# Altium footprint library IC_SMD_BGA.PCBLIB: 109 footprints (part 8 of 14)
Each footprint in its own frame and in the unit in brackets; x right, y up, seen from the top. Pads: shape width x height; smd on the part's side, far side on the other; paste and mask are expansions set on the pad; w line width, h text height; cw(c..) or ccw(c..) is an arc to the next point about the centre after c.
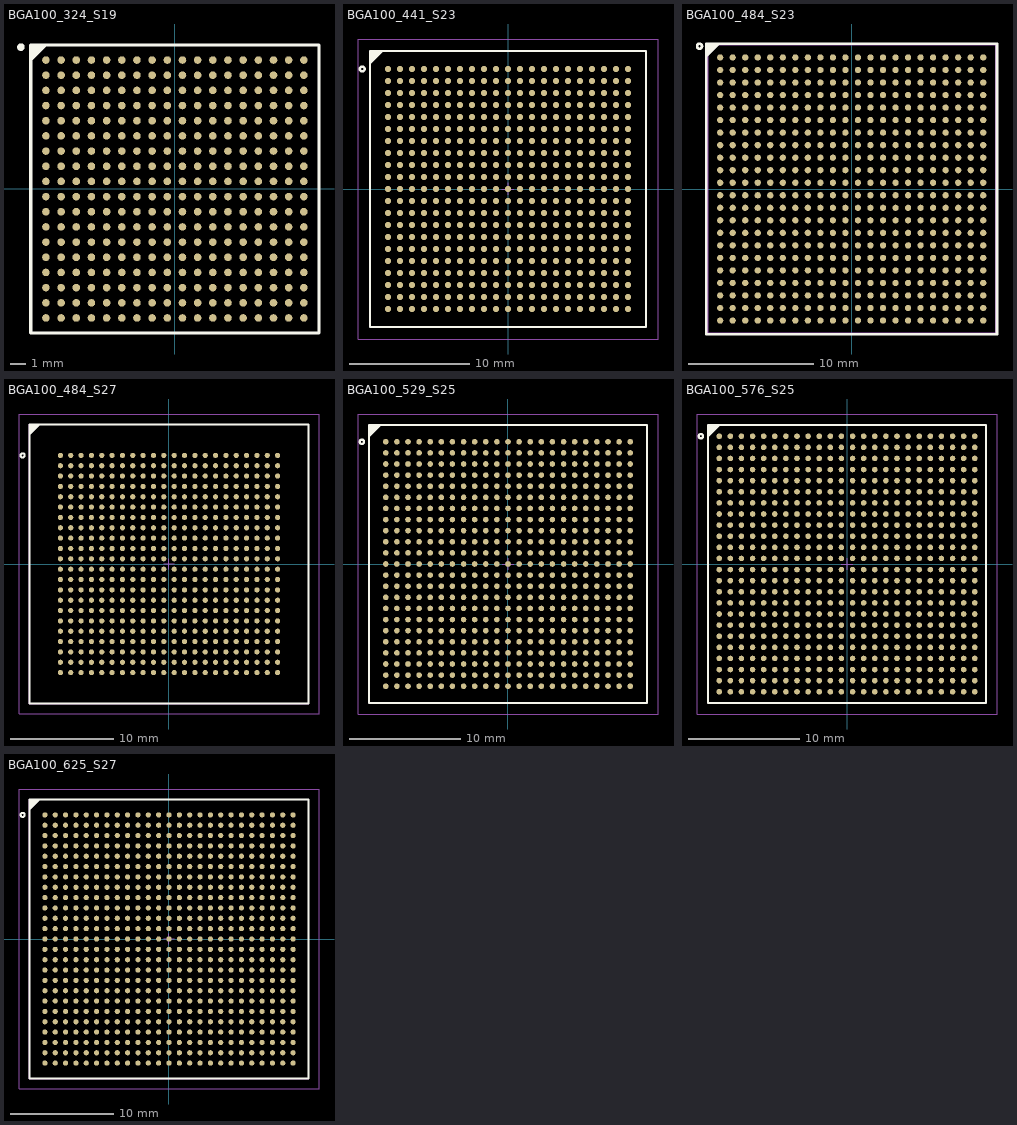
[diagram p7: the footprints below, top view; thin cyan lines are the x and y axes]

## BGA100_324_S19 [mm]
height 1
pads (324):
  round 0.5 smd mask+0.1: A1(-8.5,8.5) A2(-7.5,8.5) A3(-6.5,8.5) A4(-5.5,8.5) A5(-4.5,8.5) A6(-3.5,8.5) A7(-2.5,8.5) A8(-1.5,8.5) A9(-0.5,8.5) A10(0.5,8.5) A11(1.5,8.5) A12(2.5,8.5) A13(3.5,8.5) A14(4.5,8.5) A15(5.5,8.5) A16(6.5,8.5) A17(7.5,8.5) A18(8.5,8.5) B1(-8.5,7.5) B2(-7.5,7.5) B3(-6.5,7.5) B4(-5.5,7.5) B5(-4.5,7.5) B6(-3.5,7.5) B7(-2.5,7.5) B8(-1.5,7.5) B9(-0.5,7.5) B10(0.5,7.5) B11(1.5,7.5) B12(2.5,7.5) B13(3.5,7.5) B14(4.5,7.5) B15(5.5,7.5) B16(6.5,7.5) B17(7.5,7.5) B18(8.5,7.5) C1(-8.5,6.5) C2(-7.5,6.5) C3(-6.5,6.5) C4(-5.5,6.5) C5(-4.5,6.5) C6(-3.5,6.5) C7(-2.5,6.5) C8(-1.5,6.5) C9(-0.5,6.5) C10(0.5,6.5) C11(1.5,6.5) C12(2.5,6.5) C13(3.5,6.5) C14(4.5,6.5) C15(5.5,6.5) C16(6.5,6.5) C17(7.5,6.5) C18(8.5,6.5) D1(-8.5,5.5) D2(-7.5,5.5) D3(-6.5,5.5) D4(-5.5,5.5) D5(-4.5,5.5) D6(-3.5,5.5) D7(-2.5,5.5) D8(-1.5,5.5) D9(-0.5,5.5) D10(0.5,5.5) D11(1.5,5.5) D12(2.5,5.5) D13(3.5,5.5) D14(4.5,5.5) D15(5.5,5.5) D16(6.5,5.5) D17(7.5,5.5) D18(8.5,5.5) E1(-8.5,4.5) E2(-7.5,4.5) E3(-6.5,4.5) E4(-5.5,4.5) E5(-4.5,4.5) E6(-3.5,4.5) E7(-2.5,4.5) E8(-1.5,4.5) E9(-0.5,4.5) E10(0.5,4.5) E11(1.5,4.5) E12(2.5,4.5) E13(3.5,4.5) E14(4.5,4.5) E15(5.5,4.5) E16(6.5,4.5) E17(7.5,4.5) E18(8.5,4.5) F1(-8.5,3.5) F2(-7.5,3.5) F3(-6.5,3.5) F4(-5.5,3.5) F5(-4.5,3.5) F6(-3.5,3.5) F7(-2.5,3.5) F8(-1.5,3.5) F9(-0.5,3.5) F10(0.5,3.5) F11(1.5,3.5) F12(2.5,3.5) F13(3.5,3.5) F14(4.5,3.5) F15(5.5,3.5) F16(6.5,3.5) F17(7.5,3.5) F18(8.5,3.5) G1(-8.5,2.5) G2(-7.5,2.5) G3(-6.5,2.5) G4(-5.5,2.5) G5(-4.5,2.5) G6(-3.5,2.5) G7(-2.5,2.5) G8(-1.5,2.5) G9(-0.5,2.5) G10(0.5,2.5) G11(1.5,2.5) G12(2.5,2.5) G13(3.5,2.5) G14(4.5,2.5) G15(5.5,2.5) G16(6.5,2.5) G17(7.5,2.5) G18(8.5,2.5) H1(-8.5,1.5) H2(-7.5,1.5) H3(-6.5,1.5) H4(-5.5,1.5) H5(-4.5,1.5) H6(-3.5,1.5) H7(-2.5,1.5) H8(-1.5,1.5) H9(-0.5,1.5) H10(0.5,1.5) H11(1.5,1.5) H12(2.5,1.5) H13(3.5,1.5) H14(4.5,1.5) H15(5.5,1.5) H16(6.5,1.5) H17(7.5,1.5) H18(8.5,1.5) J1(-8.5,0.5) J2(-7.5,0.5) J3(-6.5,0.5) J4(-5.5,0.5) J5(-4.5,0.5) J6(-3.5,0.5) J7(-2.5,0.5) J8(-1.5,0.5) J9(-0.5,0.5) J10(0.5,0.5) J11(1.5,0.5) J12(2.5,0.5) J13(3.5,0.5) J14(4.5,0.5) J15(5.5,0.5) J16(6.5,0.5) J17(7.5,0.5) J18(8.5,0.5) K1(-8.5,-0.5) K2(-7.5,-0.5) K3(-6.5,-0.5) K4(-5.5,-0.5) K5(-4.5,-0.5) K6(-3.5,-0.5) K7(-2.5,-0.5) K8(-1.5,-0.5) K9(-0.5,-0.5) K10(0.5,-0.5) K11(1.5,-0.5) K12(2.5,-0.5) K13(3.5,-0.5) K14(4.5,-0.5) K15(5.5,-0.5) K16(6.5,-0.5) K17(7.5,-0.5) K18(8.5,-0.5) L1(-8.5,-1.5) L2(-7.5,-1.5) L3(-6.5,-1.5) L4(-5.5,-1.5) L5(-4.5,-1.5) L6(-3.5,-1.5) L7(-2.5,-1.5) L8(-1.5,-1.5) L9(-0.5,-1.5) L10(0.5,-1.5) L11(1.5,-1.5) L12(2.5,-1.5) L13(3.5,-1.5) L14(4.5,-1.5) L15(5.5,-1.5) L16(6.5,-1.5) L17(7.5,-1.5) L18(8.5,-1.5) M1(-8.5,-2.5) M2(-7.5,-2.5) M3(-6.5,-2.5) M4(-5.5,-2.5) M5(-4.5,-2.5) M6(-3.5,-2.5) M7(-2.5,-2.5) M8(-1.5,-2.5) M9(-0.5,-2.5) M10(0.5,-2.5) M11(1.5,-2.5) M12(2.5,-2.5) M13(3.5,-2.5) M14(4.5,-2.5) M15(5.5,-2.5) M16(6.5,-2.5) M17(7.5,-2.5) M18(8.5,-2.5) N1(-8.5,-3.5) N2(-7.5,-3.5) N3(-6.5,-3.5) N4(-5.5,-3.5) N5(-4.5,-3.5) N6(-3.5,-3.5) N7(-2.5,-3.5) N8(-1.5,-3.5) N9(-0.5,-3.5) N10(0.5,-3.5) N11(1.5,-3.5) N12(2.5,-3.5) N13(3.5,-3.5) N14(4.5,-3.5) N15(5.5,-3.5) N16(6.5,-3.5) N17(7.5,-3.5) N18(8.5,-3.5) P1(-8.5,-4.5) P2(-7.5,-4.5) P3(-6.5,-4.5) P4(-5.5,-4.5) P5(-4.5,-4.5) P6(-3.5,-4.5) P7(-2.5,-4.5) P8(-1.5,-4.5) P9(-0.5,-4.5) P10(0.5,-4.5) P11(1.5,-4.5) P12(2.5,-4.5) P13(3.5,-4.5) P14(4.5,-4.5) P15(5.5,-4.5) P16(6.5,-4.5) P17(7.5,-4.5) P18(8.5,-4.5) R1(-8.5,-5.5) R2(-7.5,-5.5) R3(-6.5,-5.5) R4(-5.5,-5.5) R5(-4.5,-5.5) R6(-3.5,-5.5) R7(-2.5,-5.5) R8(-1.5,-5.5) R9(-0.5,-5.5) R10(0.5,-5.5) R11(1.5,-5.5) R12(2.5,-5.5) R13(3.5,-5.5) R14(4.5,-5.5) R15(5.5,-5.5) R16(6.5,-5.5) R17(7.5,-5.5) R18(8.5,-5.5) T1(-8.5,-6.5) T2(-7.5,-6.5) T3(-6.5,-6.5) T4(-5.5,-6.5) T5(-4.5,-6.5) T6(-3.5,-6.5) T7(-2.5,-6.5) T8(-1.5,-6.5) T9(-0.5,-6.5) T10(0.5,-6.5) T11(1.5,-6.5) T12(2.5,-6.5) T13(3.5,-6.5) T14(4.5,-6.5) T15(5.5,-6.5) T16(6.5,-6.5) T17(7.5,-6.5) T18(8.5,-6.5) U1(-8.5,-7.5) U2(-7.5,-7.5) U3(-6.5,-7.5) U4(-5.5,-7.5) U5(-4.5,-7.5) U6(-3.5,-7.5) U7(-2.5,-7.5) U8(-1.5,-7.5) U9(-0.5,-7.5) U10(0.5,-7.5) U11(1.5,-7.5) U12(2.5,-7.5) U13(3.5,-7.5) U14(4.5,-7.5) U15(5.5,-7.5) U16(6.5,-7.5) U17(7.5,-7.5) U18(8.5,-7.5) V1(-8.5,-8.5) V2(-7.5,-8.5) V3(-6.5,-8.5) V4(-5.5,-8.5) V5(-4.5,-8.5) V6(-3.5,-8.5) V7(-2.5,-8.5) V8(-1.5,-8.5) V9(-0.5,-8.5) V10(0.5,-8.5) V11(1.5,-8.5) V12(2.5,-8.5) V13(3.5,-8.5) V14(4.5,-8.5) V15(5.5,-8.5) V16(6.5,-8.5) V17(7.5,-8.5) V18(8.5,-8.5)
TopOverlay:
  circle w0.25: c-10.15,9.35 r0.125
  region: -8.5,9.5 -9.5,8.5 -9.5,9.5
  lines w0.2: -9.5,8.5 -8.5,9.5 ; -9.5,-9.5 -9.5,9.5 9.5,9.5 9.5,-9.5 -9.5,-9.5
Mechanical13:
  lines w0.1: -9.5,-9.5 -9.5,9.5 9.5,9.5 9.5,-9.5 -9.5,-9.5
3D body: height 1, standoff 0.15, extent -9.5,-9.5 9.5,9.5

## BGA100_441_S23 [mm] "BGA, 441-Leads, Body 23x23mm, Pitch 1mm"
height 3.5
pads (441):
  round 0.5 smd: A1(-10,10) A2(-9,10) A3(-8,10) A4(-7,10) A5(-6,10) A6(-5,10) A7(-4,10) A8(-3,10) A9(-2,10) A10(-1,10) A11(0,10) A12(1,10) A13(2,10) A14(3,10) A15(4,10) A16(5,10) A17(6,10) A18(7,10) A19(8,10) A20(9,10) A21(10,10) AA1(-10,-10) AA2(-9,-10) AA3(-8,-10) AA4(-7,-10) AA5(-6,-10) AA6(-5,-10) AA7(-4,-10) AA8(-3,-10) AA9(-2,-10) AA10(-1,-10) AA11(0,-10) AA12(1,-10) AA13(2,-10) AA14(3,-10) AA15(4,-10) AA16(5,-10) AA17(6,-10) AA18(7,-10) AA19(8,-10) AA20(9,-10) AA21(10,-10) B1(-10,9) B2(-9,9) B3(-8,9) B4(-7,9) B5(-6,9) B6(-5,9) B7(-4,9) B8(-3,9) B9(-2,9) B10(-1,9) B11(0,9) B12(1,9) B13(2,9) B14(3,9) B15(4,9) B16(5,9) B17(6,9) B18(7,9) B19(8,9) B20(9,9) B21(10,9) C1(-10,8) C2(-9,8) C3(-8,8) C4(-7,8) C5(-6,8) C6(-5,8) C7(-4,8) C8(-3,8) C9(-2,8) C10(-1,8) C11(0,8) C12(1,8) C13(2,8) C14(3,8) C15(4,8) C16(5,8) C17(6,8) C18(7,8) C19(8,8) C20(9,8) C21(10,8) D1(-10,7) D2(-9,7) D3(-8,7) D4(-7,7) D5(-6,7) D6(-5,7) D7(-4,7) D8(-3,7) D9(-2,7) D10(-1,7) D11(0,7) D12(1,7) D13(2,7) D14(3,7) D15(4,7) D16(5,7) D17(6,7) D18(7,7) D19(8,7) D20(9,7) D21(10,7) E1(-10,6) E2(-9,6) E3(-8,6) E4(-7,6) E5(-6,6) E6(-5,6) E7(-4,6) E8(-3,6) E9(-2,6) E10(-1,6) E11(0,6) E12(1,6) E13(2,6) E14(3,6) E15(4,6) E16(5,6) E17(6,6) E18(7,6) E19(8,6) E20(9,6) E21(10,6) F1(-10,5) F2(-9,5) F3(-8,5) F4(-7,5) F5(-6,5) F6(-5,5) F7(-4,5) F8(-3,5) F9(-2,5) F10(-1,5) F11(0,5) F12(1,5) F13(2,5) F14(3,5) F15(4,5) F16(5,5) F17(6,5) F18(7,5) F19(8,5) F20(9,5) F21(10,5) G1(-10,4) G2(-9,4) G3(-8,4) G4(-7,4) G5(-6,4) G6(-5,4) G7(-4,4) G8(-3,4) G9(-2,4) G10(-1,4) G11(0,4) G12(1,4) G13(2,4) G14(3,4) G15(4,4) G16(5,4) G17(6,4) G18(7,4) G19(8,4) G20(9,4) G21(10,4) H1(-10,3) H2(-9,3) H3(-8,3) H4(-7,3) H5(-6,3) H6(-5,3) H7(-4,3) H8(-3,3) H9(-2,3) H10(-1,3) H11(0,3) H12(1,3) H13(2,3) H14(3,3) H15(4,3) H16(5,3) H17(6,3) H18(7,3) H19(8,3) H20(9,3) H21(10,3) J1(-10,2) J2(-9,2) J3(-8,2) J4(-7,2) J5(-6,2) J6(-5,2) J7(-4,2) J8(-3,2) J9(-2,2) J10(-1,2) J11(0,2) J12(1,2) J13(2,2) J14(3,2) J15(4,2) J16(5,2) J17(6,2) J18(7,2) J19(8,2) J20(9,2) J21(10,2) K1(-10,1) K2(-9,1) K3(-8,1) K4(-7,1) K5(-6,1) K6(-5,1) K7(-4,1) K8(-3,1) K9(-2,1) K10(-1,1) K11(0,1) K12(1,1) K13(2,1) K14(3,1) K15(4,1) K16(5,1) K17(6,1) K18(7,1) K19(8,1) K20(9,1) K21(10,1) L1(-10,0) L2(-9,0) L3(-8,0) L4(-7,0) L5(-6,0) L6(-5,0) L7(-4,0) L8(-3,0) L9(-2,0) L10(-1,0) L11(0,0) L12(1,0) L13(2,0) L14(3,0) L15(4,0) L16(5,0) L17(6,0) L18(7,0) L19(8,0) L20(9,0) L21(10,0) M1(-10,-1) M2(-9,-1) M3(-8,-1) M4(-7,-1) M5(-6,-1) M6(-5,-1) M7(-4,-1) M8(-3,-1) M9(-2,-1) M10(-1,-1) M11(0,-1) M12(1,-1) M13(2,-1) M14(3,-1) M15(4,-1) M16(5,-1) M17(6,-1) M18(7,-1) M19(8,-1) M20(9,-1) M21(10,-1) N1(-10,-2) N2(-9,-2) N3(-8,-2) N4(-7,-2) N5(-6,-2) N6(-5,-2) N7(-4,-2) N8(-3,-2) N9(-2,-2) N10(-1,-2) N11(0,-2) N12(1,-2) N13(2,-2) N14(3,-2) N15(4,-2) N16(5,-2) N17(6,-2) N18(7,-2) N19(8,-2) N20(9,-2) N21(10,-2) P1(-10,-3) P2(-9,-3) P3(-8,-3) P4(-7,-3) P5(-6,-3) P6(-5,-3) P7(-4,-3) P8(-3,-3) P9(-2,-3) P10(-1,-3) P11(0,-3) P12(1,-3) P13(2,-3) P14(3,-3) P15(4,-3) P16(5,-3) P17(6,-3) P18(7,-3) P19(8,-3) P20(9,-3) P21(10,-3) R1(-10,-4) R2(-9,-4) R3(-8,-4) R4(-7,-4) R5(-6,-4) R6(-5,-4) R7(-4,-4) R8(-3,-4) R9(-2,-4) R10(-1,-4) R11(0,-4) R12(1,-4) R13(2,-4) R14(3,-4) R15(4,-4) R16(5,-4) R17(6,-4) R18(7,-4) R19(8,-4) R20(9,-4) R21(10,-4) T1(-10,-5) T2(-9,-5) T3(-8,-5) T4(-7,-5) T5(-6,-5) T6(-5,-5) T7(-4,-5) T8(-3,-5) T9(-2,-5) T10(-1,-5) T11(0,-5) T12(1,-5) T13(2,-5) T14(3,-5) T15(4,-5) T16(5,-5) T17(6,-5) T18(7,-5) T19(8,-5) T20(9,-5) T21(10,-5) U1(-10,-6) U2(-9,-6) U3(-8,-6) U4(-7,-6) U5(-6,-6) U6(-5,-6) U7(-4,-6) U8(-3,-6) U9(-2,-6) U10(-1,-6) U11(0,-6) U12(1,-6) U13(2,-6) U14(3,-6) U15(4,-6) U16(5,-6) U17(6,-6) U18(7,-6) U19(8,-6) U20(9,-6) U21(10,-6) V1(-10,-7) V2(-9,-7) V3(-8,-7) V4(-7,-7) V5(-6,-7) V6(-5,-7) V7(-4,-7) V8(-3,-7) V9(-2,-7) V10(-1,-7) V11(0,-7) V12(1,-7) V13(2,-7) V14(3,-7) V15(4,-7) V16(5,-7) V17(6,-7) V18(7,-7) V19(8,-7) V20(9,-7) V21(10,-7) W1(-10,-8) W2(-9,-8) W3(-8,-8) W4(-7,-8) W5(-6,-8) W6(-5,-8) W7(-4,-8) W8(-3,-8) W9(-2,-8) W10(-1,-8) W11(0,-8) W12(1,-8) W13(2,-8) W14(3,-8) W15(4,-8) W16(5,-8) W17(6,-8) W18(7,-8) W19(8,-8) W20(9,-8) W21(10,-8) Y1(-10,-9) Y2(-9,-9) Y3(-8,-9) Y4(-7,-9) Y5(-6,-9) Y6(-5,-9) Y7(-4,-9) Y8(-3,-9) Y9(-2,-9) Y10(-1,-9) Y11(0,-9) Y12(1,-9) Y13(2,-9) Y14(3,-9) Y15(4,-9) Y16(5,-9) Y17(6,-9) Y18(7,-9) Y19(8,-9) Y20(9,-9) Y21(10,-9)
TopOverlay:
  circle w0.2: c-12.15,10 r0.2
  region: -10.5,11.5 -11.5,10.5 -11.5,11.5
  lines w0.2: -11.5,10.5 -10.5,11.5 ; -11.5,-11.5 -11.5,11.5 11.5,11.5 11.5,-11.5 -11.5,-11.5
Mechanical13:
  lines w0.1: -11.5,-11.5 -11.5,11.5 11.5,11.5 11.5,-11.5 -11.5,-11.5
Mechanical15:
  lines w0.1: -0.5,0 0.5,0 ; 0,-0.5 0,0.5 ; -12.5,-12.5 -12.5,12.5 12.5,12.5 12.5,-12.5 -12.5,-12.5
3D body: height 3.5, standoff 0, extent -11.5,-11.5 11.5,11.5

## BGA100_484_S23 [mm] "BGA, 484-Leads, Body 23.0x23.0mm,  Pitch 1.00mm"
height 2.2
pads (484):
  round 0.5 smd: A1(-10.5,10.5) A2(-9.5,10.5) A3(-8.5,10.5) A4(-7.5,10.5) A5(-6.5,10.5) A6(-5.5,10.5) A7(-4.5,10.5) A8(-3.5,10.5) A9(-2.5,10.5) A10(-1.5,10.5) A11(-0.5,10.5) A12(0.5,10.5) A13(1.5,10.5) A14(2.5,10.5) A15(3.5,10.5) A16(4.5,10.5) A17(5.5,10.5) A18(6.5,10.5) A19(7.5,10.5) A20(8.5,10.5) A21(9.5,10.5) A22(10.5,10.5) AA1(-10.5,-9.5) AA2(-9.5,-9.5) AA3(-8.5,-9.5) AA4(-7.5,-9.5) AA5(-6.5,-9.5) AA6(-5.5,-9.5) AA7(-4.5,-9.5) AA8(-3.5,-9.5) AA9(-2.5,-9.5) AA10(-1.5,-9.5) AA11(-0.5,-9.5) AA12(0.5,-9.5) AA13(1.5,-9.5) AA14(2.5,-9.5) AA15(3.5,-9.5) AA16(4.5,-9.5) AA17(5.5,-9.5) AA18(6.5,-9.5) AA19(7.5,-9.5) AA20(8.5,-9.5) AA21(9.5,-9.5) AA22(10.5,-9.5) AB1(-10.5,-10.5) AB2(-9.5,-10.5) AB3(-8.5,-10.5) AB4(-7.5,-10.5) AB5(-6.5,-10.5) AB6(-5.5,-10.5) AB7(-4.5,-10.5) AB8(-3.5,-10.5) AB9(-2.5,-10.5) AB10(-1.5,-10.5) AB11(-0.5,-10.5) AB12(0.5,-10.5) AB13(1.5,-10.5) AB14(2.5,-10.5) AB15(3.5,-10.5) AB16(4.5,-10.5) AB17(5.5,-10.5) AB18(6.5,-10.5) AB19(7.5,-10.5) AB20(8.5,-10.5) AB21(9.5,-10.5) AB22(10.5,-10.5) B1(-10.5,9.5) B2(-9.5,9.5) B3(-8.5,9.5) B4(-7.5,9.5) B5(-6.5,9.5) B6(-5.5,9.5) B7(-4.5,9.5) B8(-3.5,9.5) B9(-2.5,9.5) B10(-1.5,9.5) B11(-0.5,9.5) B12(0.5,9.5) B13(1.5,9.5) B14(2.5,9.5) B15(3.5,9.5) B16(4.5,9.5) B17(5.5,9.5) B18(6.5,9.5) B19(7.5,9.5) B20(8.5,9.5) B21(9.5,9.5) B22(10.5,9.5) C1(-10.5,8.5) C2(-9.5,8.5) C3(-8.5,8.5) C4(-7.5,8.5) C5(-6.5,8.5) C6(-5.5,8.5) C7(-4.5,8.5) C8(-3.5,8.5) C9(-2.5,8.5) C10(-1.5,8.5) C11(-0.5,8.5) C12(0.5,8.5) C13(1.5,8.5) C14(2.5,8.5) C15(3.5,8.5) C16(4.5,8.5) C17(5.5,8.5) C18(6.5,8.5) C19(7.5,8.5) C20(8.5,8.5) C21(9.5,8.5) C22(10.5,8.5) D1(-10.5,7.5) D2(-9.5,7.5) D3(-8.5,7.5) D4(-7.5,7.5) D5(-6.5,7.5) D6(-5.5,7.5) D7(-4.5,7.5) D8(-3.5,7.5) D9(-2.5,7.5) D10(-1.5,7.5) D11(-0.5,7.5) D12(0.5,7.5) D13(1.5,7.5) D14(2.5,7.5) D15(3.5,7.5) D16(4.5,7.5) D17(5.5,7.5) D18(6.5,7.5) D19(7.5,7.5) D20(8.5,7.5) D21(9.5,7.5) D22(10.5,7.5) E1(-10.5,6.5) E2(-9.5,6.5) E3(-8.5,6.5) E4(-7.5,6.5) E5(-6.5,6.5) E6(-5.5,6.5) E7(-4.5,6.5) E8(-3.5,6.5) E9(-2.5,6.5) E10(-1.5,6.5) E11(-0.5,6.5) E12(0.5,6.5) E13(1.5,6.5) E14(2.5,6.5) E15(3.5,6.5) E16(4.5,6.5) E17(5.5,6.5) E18(6.5,6.5) E19(7.5,6.5) E20(8.5,6.5) E21(9.5,6.5) E22(10.5,6.5) F1(-10.5,5.5) F2(-9.5,5.5) F3(-8.5,5.5) F4(-7.5,5.5) F5(-6.5,5.5) F6(-5.5,5.5) F7(-4.5,5.5) F8(-3.5,5.5) F9(-2.5,5.5) F10(-1.5,5.5) F11(-0.5,5.5) F12(0.5,5.5) F13(1.5,5.5) F14(2.5,5.5) F15(3.5,5.5) F16(4.5,5.5) F17(5.5,5.5) F18(6.5,5.5) F19(7.5,5.5) F20(8.5,5.5) F21(9.5,5.5) F22(10.5,5.5) G1(-10.5,4.5) G2(-9.5,4.5) G3(-8.5,4.5) G4(-7.5,4.5) G5(-6.5,4.5) G6(-5.5,4.5) G7(-4.5,4.5) G8(-3.5,4.5) G9(-2.5,4.5) G10(-1.5,4.5) G11(-0.5,4.5) G12(0.5,4.5) G13(1.5,4.5) G14(2.5,4.5) G15(3.5,4.5) G16(4.5,4.5) G17(5.5,4.5) G18(6.5,4.5) G19(7.5,4.5) G20(8.5,4.5) G21(9.5,4.5) G22(10.5,4.5) H1(-10.5,3.5) H2(-9.5,3.5) H3(-8.5,3.5) H4(-7.5,3.5) H5(-6.5,3.5) H6(-5.5,3.5) H7(-4.5,3.5) H8(-3.5,3.5) H9(-2.5,3.5) H10(-1.5,3.5) H11(-0.5,3.5) H12(0.5,3.5) H13(1.5,3.5) H14(2.5,3.5) H15(3.5,3.5) H16(4.5,3.5) H17(5.5,3.5) H18(6.5,3.5) H19(7.5,3.5) H20(8.5,3.5) H21(9.5,3.5) H22(10.5,3.5) J1(-10.5,2.5) J2(-9.5,2.5) J3(-8.5,2.5) J4(-7.5,2.5) J5(-6.5,2.5) J6(-5.5,2.5) J7(-4.5,2.5) J8(-3.5,2.5) J9(-2.5,2.5) J10(-1.5,2.5) J11(-0.5,2.5) J12(0.5,2.5) J13(1.5,2.5) J14(2.5,2.5) J15(3.5,2.5) J16(4.5,2.5) J17(5.5,2.5) J18(6.5,2.5) J19(7.5,2.5) J20(8.5,2.5) J21(9.5,2.5) J22(10.5,2.5) K1(-10.5,1.5) K2(-9.5,1.5) K3(-8.5,1.5) K4(-7.5,1.5) K5(-6.5,1.5) K6(-5.5,1.5) K7(-4.5,1.5) K8(-3.5,1.5) K9(-2.5,1.5) K10(-1.5,1.5) K11(-0.5,1.5) K12(0.5,1.5) K13(1.5,1.5) K14(2.5,1.5) K15(3.5,1.5) K16(4.5,1.5) K17(5.5,1.5) K18(6.5,1.5) K19(7.5,1.5) K20(8.5,1.5) K21(9.5,1.5) K22(10.5,1.5) L1(-10.5,0.5) L2(-9.5,0.5) L3(-8.5,0.5) L4(-7.5,0.5) L5(-6.5,0.5) L6(-5.5,0.5) L7(-4.5,0.5) L8(-3.5,0.5) L9(-2.5,0.5) L10(-1.5,0.5) L11(-0.5,0.5) L12(0.5,0.5) L13(1.5,0.5) L14(2.5,0.5) L15(3.5,0.5) L16(4.5,0.5) L17(5.5,0.5) L18(6.5,0.5) L19(7.5,0.5) L20(8.5,0.5) L21(9.5,0.5) L22(10.5,0.5) M1(-10.5,-0.5) M2(-9.5,-0.5) M3(-8.5,-0.5) M4(-7.5,-0.5) M5(-6.5,-0.5) M6(-5.5,-0.5) M7(-4.5,-0.5) M8(-3.5,-0.5) M9(-2.5,-0.5) M10(-1.5,-0.5) M11(-0.5,-0.5) M12(0.5,-0.5) M13(1.5,-0.5) M14(2.5,-0.5) M15(3.5,-0.5) M16(4.5,-0.5) M17(5.5,-0.5) M18(6.5,-0.5) M19(7.5,-0.5) M20(8.5,-0.5) M21(9.5,-0.5) M22(10.5,-0.5) N1(-10.5,-1.5) N2(-9.5,-1.5) N3(-8.5,-1.5) N4(-7.5,-1.5) N5(-6.5,-1.5) N6(-5.5,-1.5) N7(-4.5,-1.5) N8(-3.5,-1.5) N9(-2.5,-1.5) N10(-1.5,-1.5) N11(-0.5,-1.5) N12(0.5,-1.5) N13(1.5,-1.5) N14(2.5,-1.5) N15(3.5,-1.5) N16(4.5,-1.5) N17(5.5,-1.5) N18(6.5,-1.5) N19(7.5,-1.5) N20(8.5,-1.5) N21(9.5,-1.5) N22(10.5,-1.5) P1(-10.5,-2.5) P2(-9.5,-2.5) P3(-8.5,-2.5) P4(-7.5,-2.5) P5(-6.5,-2.5) P6(-5.5,-2.5) P7(-4.5,-2.5) P8(-3.5,-2.5) P9(-2.5,-2.5) P10(-1.5,-2.5) P11(-0.5,-2.5) P12(0.5,-2.5) P13(1.5,-2.5) P14(2.5,-2.5) P15(3.5,-2.5) P16(4.5,-2.5) P17(5.5,-2.5) P18(6.5,-2.5) P19(7.5,-2.5) P20(8.5,-2.5) P21(9.5,-2.5) P22(10.5,-2.5) R1(-10.5,-3.5) R2(-9.5,-3.5) R3(-8.5,-3.5) R4(-7.5,-3.5) R5(-6.5,-3.5) R6(-5.5,-3.5) R7(-4.5,-3.5) R8(-3.5,-3.5) R9(-2.5,-3.5) R10(-1.5,-3.5) R11(-0.5,-3.5) R12(0.5,-3.5) R13(1.5,-3.5) R14(2.5,-3.5) R15(3.5,-3.5) R16(4.5,-3.5) R17(5.5,-3.5) R18(6.5,-3.5) R19(7.5,-3.5) R20(8.5,-3.5) R21(9.5,-3.5) R22(10.5,-3.5) T1(-10.5,-4.5) T2(-9.5,-4.5) T3(-8.5,-4.5) T4(-7.5,-4.5) T5(-6.5,-4.5) T6(-5.5,-4.5) T7(-4.5,-4.5) T8(-3.5,-4.5) T9(-2.5,-4.5) T10(-1.5,-4.5) T11(-0.5,-4.5) T12(0.5,-4.5) T13(1.5,-4.5) T14(2.5,-4.5) T15(3.5,-4.5) T16(4.5,-4.5) T17(5.5,-4.5) T18(6.5,-4.5) T19(7.5,-4.5) T20(8.5,-4.5) T21(9.5,-4.5) T22(10.5,-4.5) U1(-10.5,-5.5) U2(-9.5,-5.5) U3(-8.5,-5.5) U4(-7.5,-5.5) U5(-6.5,-5.5) U6(-5.5,-5.5) U7(-4.5,-5.5) U8(-3.5,-5.5) U9(-2.5,-5.5) U10(-1.5,-5.5) U11(-0.5,-5.5) U12(0.5,-5.5) U13(1.5,-5.5) U14(2.5,-5.5) U15(3.5,-5.5) U16(4.5,-5.5) U17(5.5,-5.5) U18(6.5,-5.5) U19(7.5,-5.5) U20(8.5,-5.5) U21(9.5,-5.5) U22(10.5,-5.5) V1(-10.5,-6.5) V2(-9.5,-6.5) V3(-8.5,-6.5) V4(-7.5,-6.5) V5(-6.5,-6.5) V6(-5.5,-6.5) V7(-4.5,-6.5) V8(-3.5,-6.5) V9(-2.5,-6.5) V10(-1.5,-6.5) V11(-0.5,-6.5) V12(0.5,-6.5) V13(1.5,-6.5) V14(2.5,-6.5) V15(3.5,-6.5) V16(4.5,-6.5) V17(5.5,-6.5) V18(6.5,-6.5) V19(7.5,-6.5) V20(8.5,-6.5) V21(9.5,-6.5) V22(10.5,-6.5) W1(-10.5,-7.5) W2(-9.5,-7.5) W3(-8.5,-7.5) W4(-7.5,-7.5) W5(-6.5,-7.5) W6(-5.5,-7.5) W7(-4.5,-7.5) W8(-3.5,-7.5) W9(-2.5,-7.5) W10(-1.5,-7.5) W11(-0.5,-7.5) W12(0.5,-7.5) W13(1.5,-7.5) W14(2.5,-7.5) W15(3.5,-7.5) W16(4.5,-7.5) W17(5.5,-7.5) W18(6.5,-7.5) W19(7.5,-7.5) W20(8.5,-7.5) W21(9.5,-7.5) W22(10.5,-7.5) Y1(-10.5,-8.5) Y2(-9.5,-8.5) Y3(-8.5,-8.5) Y4(-7.5,-8.5) Y5(-6.5,-8.5) Y6(-5.5,-8.5) Y7(-4.5,-8.5) Y8(-3.5,-8.5) Y9(-2.5,-8.5) Y10(-1.5,-8.5) Y11(-0.5,-8.5) Y12(0.5,-8.5) Y13(1.5,-8.5) Y14(2.5,-8.5) Y15(3.5,-8.5) Y16(4.5,-8.5) Y17(5.5,-8.5) Y18(6.5,-8.5) Y19(7.5,-8.5) Y20(8.5,-8.5) Y21(9.5,-8.5) Y22(10.5,-8.5)
TopOverlay:
  circle w0.2: c-12.15,11.4 r0.2
  region: -10.6,11.6 -11.6,10.6 -11.6,11.6
  lines w0.2: -11.6,10.6 -10.6,11.6 ; -11.6,-11.6 11.6,-11.6 11.6,11.6 -11.6,11.6 -11.6,-11.6
Mechanical13:
  lines w0.1: -11.5,-11.5 11.5,-11.5 11.5,11.5 -11.5,11.5 -11.5,-11.5
3D body: height 2.2, standoff 1, extent -10.8,-10.85 10.85,10.85
3D body: height 1, standoff 0.35, extent -11.5,-11.5 11.5,11.5

## BGA100_484_S27 [mm] "BGA, 484-Leads, Body 27x27mm, Pitch 1mm"
height 3.5
pads (484):
  round 0.5 smd: A1(-10.5,10.5) A2(-9.5,10.5) A3(-8.5,10.5) A4(-7.5,10.5) A5(-6.5,10.5) A6(-5.5,10.5) A7(-4.5,10.5) A8(-3.5,10.5) A9(-2.5,10.5) A10(-1.5,10.5) A11(-0.5,10.5) A12(0.5,10.5) A13(1.5,10.5) A14(2.5,10.5) A15(3.5,10.5) A16(4.5,10.5) A17(5.5,10.5) A18(6.5,10.5) A19(7.5,10.5) A20(8.5,10.5) A21(9.5,10.5) A22(10.5,10.5) AA1(-10.5,-9.5) AA2(-9.5,-9.5) AA3(-8.5,-9.5) AA4(-7.5,-9.5) AA5(-6.5,-9.5) AA6(-5.5,-9.5) AA7(-4.5,-9.5) AA8(-3.5,-9.5) AA9(-2.5,-9.5) AA10(-1.5,-9.5) AA11(-0.5,-9.5) AA12(0.5,-9.5) AA13(1.5,-9.5) AA14(2.5,-9.5) AA15(3.5,-9.5) AA16(4.5,-9.5) AA17(5.5,-9.5) AA18(6.5,-9.5) AA19(7.5,-9.5) AA20(8.5,-9.5) AA21(9.5,-9.5) AA22(10.5,-9.5) AB1(-10.5,-10.5) AB2(-9.5,-10.5) AB3(-8.5,-10.5) AB4(-7.5,-10.5) AB5(-6.5,-10.5) AB6(-5.5,-10.5) AB7(-4.5,-10.5) AB8(-3.5,-10.5) AB9(-2.5,-10.5) AB10(-1.5,-10.5) AB11(-0.5,-10.5) AB12(0.5,-10.5) AB13(1.5,-10.5) AB14(2.5,-10.5) AB15(3.5,-10.5) AB16(4.5,-10.5) AB17(5.5,-10.5) AB18(6.5,-10.5) AB19(7.5,-10.5) AB20(8.5,-10.5) AB21(9.5,-10.5) AB22(10.5,-10.5) B1(-10.5,9.5) B2(-9.5,9.5) B3(-8.5,9.5) B4(-7.5,9.5) B5(-6.5,9.5) B6(-5.5,9.5) B7(-4.5,9.5) B8(-3.5,9.5) B9(-2.5,9.5) B10(-1.5,9.5) B11(-0.5,9.5) B12(0.5,9.5) B13(1.5,9.5) B14(2.5,9.5) B15(3.5,9.5) B16(4.5,9.5) B17(5.5,9.5) B18(6.5,9.5) B19(7.5,9.5) B20(8.5,9.5) B21(9.5,9.5) B22(10.5,9.5) C1(-10.5,8.5) C2(-9.5,8.5) C3(-8.5,8.5) C4(-7.5,8.5) C5(-6.5,8.5) C6(-5.5,8.5) C7(-4.5,8.5) C8(-3.5,8.5) C9(-2.5,8.5) C10(-1.5,8.5) C11(-0.5,8.5) C12(0.5,8.5) C13(1.5,8.5) C14(2.5,8.5) C15(3.5,8.5) C16(4.5,8.5) C17(5.5,8.5) C18(6.5,8.5) C19(7.5,8.5) C20(8.5,8.5) C21(9.5,8.5) C22(10.5,8.5) D1(-10.5,7.5) D2(-9.5,7.5) D3(-8.5,7.5) D4(-7.5,7.5) D5(-6.5,7.5) D6(-5.5,7.5) D7(-4.5,7.5) D8(-3.5,7.5) D9(-2.5,7.5) D10(-1.5,7.5) D11(-0.5,7.5) D12(0.5,7.5) D13(1.5,7.5) D14(2.5,7.5) D15(3.5,7.5) D16(4.5,7.5) D17(5.5,7.5) D18(6.5,7.5) D19(7.5,7.5) D20(8.5,7.5) D21(9.5,7.5) D22(10.5,7.5) E1(-10.5,6.5) E2(-9.5,6.5) E3(-8.5,6.5) E4(-7.5,6.5) E5(-6.5,6.5) E6(-5.5,6.5) E7(-4.5,6.5) E8(-3.5,6.5) E9(-2.5,6.5) E10(-1.5,6.5) E11(-0.5,6.5) E12(0.5,6.5) E13(1.5,6.5) E14(2.5,6.5) E15(3.5,6.5) E16(4.5,6.5) E17(5.5,6.5) E18(6.5,6.5) E19(7.5,6.5) E20(8.5,6.5) E21(9.5,6.5) E22(10.5,6.5) F1(-10.5,5.5) F2(-9.5,5.5) F3(-8.5,5.5) F4(-7.5,5.5) F5(-6.5,5.5) F6(-5.5,5.5) F7(-4.5,5.5) F8(-3.5,5.5) F9(-2.5,5.5) F10(-1.5,5.5) F11(-0.5,5.5) F12(0.5,5.5) F13(1.5,5.5) F14(2.5,5.5) F15(3.5,5.5) F16(4.5,5.5) F17(5.5,5.5) F18(6.5,5.5) F19(7.5,5.5) F20(8.5,5.5) F21(9.5,5.5) F22(10.5,5.5) G1(-10.5,4.5) G2(-9.5,4.5) G3(-8.5,4.5) G4(-7.5,4.5) G5(-6.5,4.5) G6(-5.5,4.5) G7(-4.5,4.5) G8(-3.5,4.5) G9(-2.5,4.5) G10(-1.5,4.5) G11(-0.5,4.5) G12(0.5,4.5) G13(1.5,4.5) G14(2.5,4.5) G15(3.5,4.5) G16(4.5,4.5) G17(5.5,4.5) G18(6.5,4.5) G19(7.5,4.5) G20(8.5,4.5) G21(9.5,4.5) G22(10.5,4.5) H1(-10.5,3.5) H2(-9.5,3.5) H3(-8.5,3.5) H4(-7.5,3.5) H5(-6.5,3.5) H6(-5.5,3.5) H7(-4.5,3.5) H8(-3.5,3.5) H9(-2.5,3.5) H10(-1.5,3.5) H11(-0.5,3.5) H12(0.5,3.5) H13(1.5,3.5) H14(2.5,3.5) H15(3.5,3.5) H16(4.5,3.5) H17(5.5,3.5) H18(6.5,3.5) H19(7.5,3.5) H20(8.5,3.5) H21(9.5,3.5) H22(10.5,3.5) J1(-10.5,2.5) J2(-9.5,2.5) J3(-8.5,2.5) J4(-7.5,2.5) J5(-6.5,2.5) J6(-5.5,2.5) J7(-4.5,2.5) J8(-3.5,2.5) J9(-2.5,2.5) J10(-1.5,2.5) J11(-0.5,2.5) J12(0.5,2.5) J13(1.5,2.5) J14(2.5,2.5) J15(3.5,2.5) J16(4.5,2.5) J17(5.5,2.5) J18(6.5,2.5) J19(7.5,2.5) J20(8.5,2.5) J21(9.5,2.5) J22(10.5,2.5) K1(-10.5,1.5) K2(-9.5,1.5) K3(-8.5,1.5) K4(-7.5,1.5) K5(-6.5,1.5) K6(-5.5,1.5) K7(-4.5,1.5) K8(-3.5,1.5) K9(-2.5,1.5) K10(-1.5,1.5) K11(-0.5,1.5) K12(0.5,1.5) K13(1.5,1.5) K14(2.5,1.5) K15(3.5,1.5) K16(4.5,1.5) K17(5.5,1.5) K18(6.5,1.5) K19(7.5,1.5) K20(8.5,1.5) K21(9.5,1.5) K22(10.5,1.5) L1(-10.5,0.5) L2(-9.5,0.5) L3(-8.5,0.5) L4(-7.5,0.5) L5(-6.5,0.5) L6(-5.5,0.5) L7(-4.5,0.5) L8(-3.5,0.5) L9(-2.5,0.5) L10(-1.5,0.5) L11(-0.5,0.5) L12(0.5,0.5) L13(1.5,0.5) L14(2.5,0.5) L15(3.5,0.5) L16(4.5,0.5) L17(5.5,0.5) L18(6.5,0.5) L19(7.5,0.5) L20(8.5,0.5) L21(9.5,0.5) L22(10.5,0.5) M1(-10.5,-0.5) M2(-9.5,-0.5) M3(-8.5,-0.5) M4(-7.5,-0.5) M5(-6.5,-0.5) M6(-5.5,-0.5) M7(-4.5,-0.5) M8(-3.5,-0.5) M9(-2.5,-0.5) M10(-1.5,-0.5) M11(-0.5,-0.5) M12(0.5,-0.5) M13(1.5,-0.5) M14(2.5,-0.5) M15(3.5,-0.5) M16(4.5,-0.5) M17(5.5,-0.5) M18(6.5,-0.5) M19(7.5,-0.5) M20(8.5,-0.5) M21(9.5,-0.5) M22(10.5,-0.5) N1(-10.5,-1.5) N2(-9.5,-1.5) N3(-8.5,-1.5) N4(-7.5,-1.5) N5(-6.5,-1.5) N6(-5.5,-1.5) N7(-4.5,-1.5) N8(-3.5,-1.5) N9(-2.5,-1.5) N10(-1.5,-1.5) N11(-0.5,-1.5) N12(0.5,-1.5) N13(1.5,-1.5) N14(2.5,-1.5) N15(3.5,-1.5) N16(4.5,-1.5) N17(5.5,-1.5) N18(6.5,-1.5) N19(7.5,-1.5) N20(8.5,-1.5) N21(9.5,-1.5) N22(10.5,-1.5) P1(-10.5,-2.5) P2(-9.5,-2.5) P3(-8.5,-2.5) P4(-7.5,-2.5) P5(-6.5,-2.5) P6(-5.5,-2.5) P7(-4.5,-2.5) P8(-3.5,-2.5) P9(-2.5,-2.5) P10(-1.5,-2.5) P11(-0.5,-2.5) P12(0.5,-2.5) P13(1.5,-2.5) P14(2.5,-2.5) P15(3.5,-2.5) P16(4.5,-2.5) P17(5.5,-2.5) P18(6.5,-2.5) P19(7.5,-2.5) P20(8.5,-2.5) P21(9.5,-2.5) P22(10.5,-2.5) R1(-10.5,-3.5) R2(-9.5,-3.5) R3(-8.5,-3.5) R4(-7.5,-3.5) R5(-6.5,-3.5) R6(-5.5,-3.5) R7(-4.5,-3.5) R8(-3.5,-3.5) R9(-2.5,-3.5) R10(-1.5,-3.5) R11(-0.5,-3.5) R12(0.5,-3.5) R13(1.5,-3.5) R14(2.5,-3.5) R15(3.5,-3.5) R16(4.5,-3.5) R17(5.5,-3.5) R18(6.5,-3.5) R19(7.5,-3.5) R20(8.5,-3.5) R21(9.5,-3.5) R22(10.5,-3.5) T1(-10.5,-4.5) T2(-9.5,-4.5) T3(-8.5,-4.5) T4(-7.5,-4.5) T5(-6.5,-4.5) T6(-5.5,-4.5) T7(-4.5,-4.5) T8(-3.5,-4.5) T9(-2.5,-4.5) T10(-1.5,-4.5) T11(-0.5,-4.5) T12(0.5,-4.5) T13(1.5,-4.5) T14(2.5,-4.5) T15(3.5,-4.5) T16(4.5,-4.5) T17(5.5,-4.5) T18(6.5,-4.5) T19(7.5,-4.5) T20(8.5,-4.5) T21(9.5,-4.5) T22(10.5,-4.5) U1(-10.5,-5.5) U2(-9.5,-5.5) U3(-8.5,-5.5) U4(-7.5,-5.5) U5(-6.5,-5.5) U6(-5.5,-5.5) U7(-4.5,-5.5) U8(-3.5,-5.5) U9(-2.5,-5.5) U10(-1.5,-5.5) U11(-0.5,-5.5) U12(0.5,-5.5) U13(1.5,-5.5) U14(2.5,-5.5) U15(3.5,-5.5) U16(4.5,-5.5) U17(5.5,-5.5) U18(6.5,-5.5) U19(7.5,-5.5) U20(8.5,-5.5) U21(9.5,-5.5) U22(10.5,-5.5) V1(-10.5,-6.5) V2(-9.5,-6.5) V3(-8.5,-6.5) V4(-7.5,-6.5) V5(-6.5,-6.5) V6(-5.5,-6.5) V7(-4.5,-6.5) V8(-3.5,-6.5) V9(-2.5,-6.5) V10(-1.5,-6.5) V11(-0.5,-6.5) V12(0.5,-6.5) V13(1.5,-6.5) V14(2.5,-6.5) V15(3.5,-6.5) V16(4.5,-6.5) V17(5.5,-6.5) V18(6.5,-6.5) V19(7.5,-6.5) V20(8.5,-6.5) V21(9.5,-6.5) V22(10.5,-6.5) W1(-10.5,-7.5) W2(-9.5,-7.5) W3(-8.5,-7.5) W4(-7.5,-7.5) W5(-6.5,-7.5) W6(-5.5,-7.5) W7(-4.5,-7.5) W8(-3.5,-7.5) W9(-2.5,-7.5) W10(-1.5,-7.5) W11(-0.5,-7.5) W12(0.5,-7.5) W13(1.5,-7.5) W14(2.5,-7.5) W15(3.5,-7.5) W16(4.5,-7.5) W17(5.5,-7.5) W18(6.5,-7.5) W19(7.5,-7.5) W20(8.5,-7.5) W21(9.5,-7.5) W22(10.5,-7.5) Y1(-10.5,-8.5) Y2(-9.5,-8.5) Y3(-8.5,-8.5) Y4(-7.5,-8.5) Y5(-6.5,-8.5) Y6(-5.5,-8.5) Y7(-4.5,-8.5) Y8(-3.5,-8.5) Y9(-2.5,-8.5) Y10(-1.5,-8.5) Y11(-0.5,-8.5) Y12(0.5,-8.5) Y13(1.5,-8.5) Y14(2.5,-8.5) Y15(3.5,-8.5) Y16(4.5,-8.5) Y17(5.5,-8.5) Y18(6.5,-8.5) Y19(7.5,-8.5) Y20(8.5,-8.5) Y21(9.5,-8.5) Y22(10.5,-8.5)
TopOverlay:
  circle w0.2: c-14.15,10.5 r0.2
  region: -12.5,13.5 -13.5,12.5 -13.5,13.5
  lines w0.2: -13.5,12.5 -12.5,13.5 ; -13.5,-13.5 13.5,-13.5 13.5,13.5 -13.5,13.5 -13.5,-13.5
Mechanical13:
  lines w0.1: -13.5,-13.5 13.5,-13.5 13.5,13.5 -13.5,13.5 -13.5,-13.5
Mechanical15:
  lines w0.1: -0.5,0 0.5,0 ; 0,-0.5 0,0.5 ; -14.5,-14.5 14.5,-14.5 14.5,14.5 -14.5,14.5 -14.5,-14.5
3D body: height 3.5, standoff 0, extent -13.5,-13.5 13.5,13.5

## BGA100_529_S25 [mm] "BGA, 529-Leads, Body 25x25mm, Pitch 1mm"
height 3.5
pads (529):
  round 0.5 smd: A1(-11,11) A2(-10,11) A3(-9,11) A4(-8,11) A5(-7,11) A6(-6,11) A7(-5,11) A8(-4,11) A9(-3,11) A10(-2,11) A11(-1,11) A12(0,11) A13(1,11) A14(2,11) A15(3,11) A16(4,11) A17(5,11) A18(6,11) A19(7,11) A20(8,11) A21(9,11) A22(10,11) A23(11,11) AA1(-11,-9) AA2(-10,-9) AA3(-9,-9) AA4(-8,-9) AA5(-7,-9) AA6(-6,-9) AA7(-5,-9) AA8(-4,-9) AA9(-3,-9) AA10(-2,-9) AA11(-1,-9) AA12(0,-9) AA13(1,-9) AA14(2,-9) AA15(3,-9) AA16(4,-9) AA17(5,-9) AA18(6,-9) AA19(7,-9) AA20(8,-9) AA21(9,-9) AA22(10,-9) AA23(11,-9) AB1(-11,-10) AB2(-10,-10) AB3(-9,-10) AB4(-8,-10) AB5(-7,-10) AB6(-6,-10) AB7(-5,-10) AB8(-4,-10) AB9(-3,-10) AB10(-2,-10) AB11(-1,-10) AB12(0,-10) AB13(1,-10) AB14(2,-10) AB15(3,-10) AB16(4,-10) AB17(5,-10) AB18(6,-10) AB19(7,-10) AB20(8,-10) AB21(9,-10) AB22(10,-10) AB23(11,-10) AC1(-11,-11) AC2(-10,-11) AC3(-9,-11) AC4(-8,-11) AC5(-7,-11) AC6(-6,-11) AC7(-5,-11) AC8(-4,-11) AC9(-3,-11) AC10(-2,-11) AC11(-1,-11) AC12(0,-11) AC13(1,-11) AC14(2,-11) AC15(3,-11) AC16(4,-11) AC17(5,-11) AC18(6,-11) AC19(7,-11) AC20(8,-11) AC21(9,-11) AC22(10,-11) AC23(11,-11) B1(-11,10) B2(-10,10) B3(-9,10) B4(-8,10) B5(-7,10) B6(-6,10) B7(-5,10) B8(-4,10) B9(-3,10) B10(-2,10) B11(-1,10) B12(0,10) B13(1,10) B14(2,10) B15(3,10) B16(4,10) B17(5,10) B18(6,10) B19(7,10) B20(8,10) B21(9,10) B22(10,10) B23(11,10) C1(-11,9) C2(-10,9) C3(-9,9) C4(-8,9) C5(-7,9) C6(-6,9) C7(-5,9) C8(-4,9) C9(-3,9) C10(-2,9) C11(-1,9) C12(0,9) C13(1,9) C14(2,9) C15(3,9) C16(4,9) C17(5,9) C18(6,9) C19(7,9) C20(8,9) C21(9,9) C22(10,9) C23(11,9) D1(-11,8) D2(-10,8) D3(-9,8) D4(-8,8) D5(-7,8) D6(-6,8) D7(-5,8) D8(-4,8) D9(-3,8) D10(-2,8) D11(-1,8) D12(0,8) D13(1,8) D14(2,8) D15(3,8) D16(4,8) D17(5,8) D18(6,8) D19(7,8) D20(8,8) D21(9,8) D22(10,8) D23(11,8) E1(-11,7) E2(-10,7) E3(-9,7) E4(-8,7) E5(-7,7) E6(-6,7) E7(-5,7) E8(-4,7) E9(-3,7) E10(-2,7) E11(-1,7) E12(0,7) E13(1,7) E14(2,7) E15(3,7) E16(4,7) E17(5,7) E18(6,7) E19(7,7) E20(8,7) E21(9,7) E22(10,7) E23(11,7) F1(-11,6) F2(-10,6) F3(-9,6) F4(-8,6) F5(-7,6) F6(-6,6) F7(-5,6) F8(-4,6) F9(-3,6) F10(-2,6) F11(-1,6) F12(0,6) F13(1,6) F14(2,6) F15(3,6) F16(4,6) F17(5,6) F18(6,6) F19(7,6) F20(8,6) F21(9,6) F22(10,6) F23(11,6) G1(-11,5) G2(-10,5) G3(-9,5) G4(-8,5) G5(-7,5) G6(-6,5) G7(-5,5) G8(-4,5) G9(-3,5) G10(-2,5) G11(-1,5) G12(0,5) G13(1,5) G14(2,5) G15(3,5) G16(4,5) G17(5,5) G18(6,5) G19(7,5) G20(8,5) G21(9,5) G22(10,5) G23(11,5) H1(-11,4) H2(-10,4) H3(-9,4) H4(-8,4) H5(-7,4) H6(-6,4) H7(-5,4) H8(-4,4) H9(-3,4) H10(-2,4) H11(-1,4) H12(0,4) H13(1,4) H14(2,4) H15(3,4) H16(4,4) H17(5,4) H18(6,4) H19(7,4) H20(8,4) H21(9,4) H22(10,4) H23(11,4) J1(-11,3) J2(-10,3) J3(-9,3) J4(-8,3) J5(-7,3) J6(-6,3) J7(-5,3) J8(-4,3) J9(-3,3) J10(-2,3) J11(-1,3) J12(0,3) J13(1,3) J14(2,3) J15(3,3) J16(4,3) J17(5,3) J18(6,3) J19(7,3) J20(8,3) J21(9,3) J22(10,3) J23(11,3) K1(-11,2) K2(-10,2) K3(-9,2) K4(-8,2) K5(-7,2) K6(-6,2) K7(-5,2) K8(-4,2) K9(-3,2) K10(-2,2) K11(-1,2) K12(0,2) K13(1,2) K14(2,2) K15(3,2) K16(4,2) K17(5,2) K18(6,2) K19(7,2) K20(8,2) K21(9,2) K22(10,2) K23(11,2) L1(-11,1) L2(-10,1) L3(-9,1) L4(-8,1) L5(-7,1) L6(-6,1) L7(-5,1) L8(-4,1) L9(-3,1) L10(-2,1) L11(-1,1) L12(0,1) L13(1,1) L14(2,1) L15(3,1) L16(4,1) L17(5,1) L18(6,1) L19(7,1) L20(8,1) L21(9,1) L22(10,1) L23(11,1) M1(-11,0) M2(-10,0) M3(-9,0) M4(-8,0) M5(-7,0) M6(-6,0) M7(-5,0) M8(-4,0) M9(-3,0) M10(-2,0) M11(-1,0) M12(0,0) M13(1,0) M14(2,0) M15(3,0) M16(4,0) M17(5,0) M18(6,0) M19(7,0) M20(8,0) M21(9,0) M22(10,0) M23(11,0) N1(-11,-1) N2(-10,-1) N3(-9,-1) N4(-8,-1) N5(-7,-1) N6(-6,-1) N7(-5,-1) N8(-4,-1) N9(-3,-1) N10(-2,-1) N11(-1,-1) N12(0,-1) N13(1,-1) N14(2,-1) N15(3,-1) N16(4,-1) N17(5,-1) N18(6,-1) N19(7,-1) N20(8,-1) N21(9,-1) N22(10,-1) N23(11,-1) P1(-11,-2) P2(-10,-2) P3(-9,-2) P4(-8,-2) P5(-7,-2) P6(-6,-2) P7(-5,-2) P8(-4,-2) P9(-3,-2) P10(-2,-2) P11(-1,-2) P12(0,-2) P13(1,-2) P14(2,-2) P15(3,-2) P16(4,-2) P17(5,-2) P18(6,-2) P19(7,-2) P20(8,-2) P21(9,-2) P22(10,-2) P23(11,-2) R1(-11,-3) R2(-10,-3) R3(-9,-3) R4(-8,-3) R5(-7,-3) R6(-6,-3) R7(-5,-3) R8(-4,-3) R9(-3,-3) R10(-2,-3) R11(-1,-3) R12(0,-3) R13(1,-3) R14(2,-3) R15(3,-3) R16(4,-3) R17(5,-3) R18(6,-3) R19(7,-3) R20(8,-3) R21(9,-3) R22(10,-3) R23(11,-3) T1(-11,-4) T2(-10,-4) T3(-9,-4) T4(-8,-4) T5(-7,-4) T6(-6,-4) T7(-5,-4) T8(-4,-4) T9(-3,-4) T10(-2,-4) T11(-1,-4) T12(0,-4) T13(1,-4) T14(2,-4) T15(3,-4) T16(4,-4) T17(5,-4) T18(6,-4) T19(7,-4) T20(8,-4) T21(9,-4) T22(10,-4) T23(11,-4) U1(-11,-5) U2(-10,-5) U3(-9,-5) U4(-8,-5) U5(-7,-5) U6(-6,-5) U7(-5,-5) U8(-4,-5) U9(-3,-5) U10(-2,-5) U11(-1,-5) U12(0,-5) U13(1,-5) U14(2,-5) U15(3,-5) U16(4,-5) U17(5,-5) U18(6,-5) U19(7,-5) U20(8,-5) U21(9,-5) U22(10,-5) U23(11,-5) V1(-11,-6) V2(-10,-6) V3(-9,-6) V4(-8,-6) V5(-7,-6) V6(-6,-6) V7(-5,-6) V8(-4,-6) V9(-3,-6) V10(-2,-6) V11(-1,-6) V12(0,-6) V13(1,-6) V14(2,-6) V15(3,-6) V16(4,-6) V17(5,-6) V18(6,-6) V19(7,-6) V20(8,-6) V21(9,-6) V22(10,-6) V23(11,-6) W1(-11,-7) W2(-10,-7) W3(-9,-7) W4(-8,-7) W5(-7,-7) W6(-6,-7) W7(-5,-7) W8(-4,-7) W9(-3,-7) W10(-2,-7) W11(-1,-7) W12(0,-7) W13(1,-7) W14(2,-7) W15(3,-7) W16(4,-7) W17(5,-7) W18(6,-7) W19(7,-7) W20(8,-7) W21(9,-7) W22(10,-7) W23(11,-7) Y1(-11,-8) Y2(-10,-8) Y3(-9,-8) Y4(-8,-8) Y5(-7,-8) Y6(-6,-8) Y7(-5,-8) Y8(-4,-8) Y9(-3,-8) Y10(-2,-8) Y11(-1,-8) Y12(0,-8) Y13(1,-8) Y14(2,-8) Y15(3,-8) Y16(4,-8) Y17(5,-8) Y18(6,-8) Y19(7,-8) Y20(8,-8) Y21(9,-8) Y22(10,-8) Y23(11,-8)
TopOverlay:
  circle w0.2: c-13.15,11 r0.2
  region: -11.5,12.5 -12.5,11.5 -12.5,12.5
  lines w0.2: -12.5,11.5 -11.5,12.5 ; -12.5,-12.5 12.5,-12.5 12.5,12.5 -12.5,12.5 -12.5,-12.5
Mechanical13:
  lines w0.1: -12.5,-12.5 12.5,-12.5 12.5,12.5 -12.5,12.5 -12.5,-12.5
Mechanical15:
  lines w0.1: -0.5,0 0.5,0 ; 0,-0.5 0,0.5 ; -13.5,-13.5 13.5,-13.5 13.5,13.5 -13.5,13.5 -13.5,-13.5
3D body: height 3.5, standoff 0, extent -12.5,-12.5 12.5,12.5

## BGA100_576_S25 [mm] "BGA, 576-Leads, Body 25x25mm, Pitch 1mm"
height 3.17
pads (576):
  round 0.5 smd: A1(-11.5,11.5) A2(-10.5,11.5) A3(-9.5,11.5) A4(-8.5,11.5) A5(-7.5,11.5) A6(-6.5,11.5) A7(-5.5,11.5) A8(-4.5,11.5) A9(-3.5,11.5) A10(-2.5,11.5) A11(-1.5,11.5) A12(-0.5,11.5) A13(0.5,11.5) A14(1.5,11.5) A15(2.5,11.5) A16(3.5,11.5) A17(4.5,11.5) A18(5.5,11.5) A19(6.5,11.5) A20(7.5,11.5) A21(8.5,11.5) A22(9.5,11.5) A23(10.5,11.5) A24(11.5,11.5) AA1(-11.5,-8.5) AA2(-10.5,-8.5) AA3(-9.5,-8.5) AA4(-8.5,-8.5) AA5(-7.5,-8.5) AA6(-6.5,-8.5) AA7(-5.5,-8.5) AA8(-4.5,-8.5) AA9(-3.5,-8.5) AA10(-2.5,-8.5) AA11(-1.5,-8.5) AA12(-0.5,-8.5) AA13(0.5,-8.5) AA14(1.5,-8.5) AA15(2.5,-8.5) AA16(3.5,-8.5) AA17(4.5,-8.5) AA18(5.5,-8.5) AA19(6.5,-8.5) AA20(7.5,-8.5) AA21(8.5,-8.5) AA22(9.5,-8.5) AA23(10.5,-8.5) AA24(11.5,-8.5) AB1(-11.5,-9.5) AB2(-10.5,-9.5) AB3(-9.5,-9.5) AB4(-8.5,-9.5) AB5(-7.5,-9.5) AB6(-6.5,-9.5) AB7(-5.5,-9.5) AB8(-4.5,-9.5) AB9(-3.5,-9.5) AB10(-2.5,-9.5) AB11(-1.5,-9.5) AB12(-0.5,-9.5) AB13(0.5,-9.5) AB14(1.5,-9.5) AB15(2.5,-9.5) AB16(3.5,-9.5) AB17(4.5,-9.5) AB18(5.5,-9.5) AB19(6.5,-9.5) AB20(7.5,-9.5) AB21(8.5,-9.5) AB22(9.5,-9.5) AB23(10.5,-9.5) AB24(11.5,-9.5) AC1(-11.5,-10.5) AC2(-10.5,-10.5) AC3(-9.5,-10.5) AC4(-8.5,-10.5) AC5(-7.5,-10.5) AC6(-6.5,-10.5) AC7(-5.5,-10.5) AC8(-4.5,-10.5) AC9(-3.5,-10.5) AC10(-2.5,-10.5) AC11(-1.5,-10.5) AC12(-0.5,-10.5) AC13(0.5,-10.5) AC14(1.5,-10.5) AC15(2.5,-10.5) AC16(3.5,-10.5) AC17(4.5,-10.5) AC18(5.5,-10.5) AC19(6.5,-10.5) AC20(7.5,-10.5) AC21(8.5,-10.5) AC22(9.5,-10.5) AC23(10.5,-10.5) AC24(11.5,-10.5) AD1(-11.5,-11.5) AD2(-10.5,-11.5) AD3(-9.5,-11.5) AD4(-8.5,-11.5) AD5(-7.5,-11.5) AD6(-6.5,-11.5) AD7(-5.5,-11.5) AD8(-4.5,-11.5) AD9(-3.5,-11.5) AD10(-2.5,-11.5) AD11(-1.5,-11.5) AD12(-0.5,-11.5) AD13(0.5,-11.5) AD14(1.5,-11.5) AD15(2.5,-11.5) AD16(3.5,-11.5) AD17(4.5,-11.5) AD18(5.5,-11.5) AD19(6.5,-11.5) AD20(7.5,-11.5) AD21(8.5,-11.5) AD22(9.5,-11.5) AD23(10.5,-11.5) AD24(11.5,-11.5) B1(-11.5,10.5) B2(-10.5,10.5) B3(-9.5,10.5) B4(-8.5,10.5) B5(-7.5,10.5) B6(-6.5,10.5) B7(-5.5,10.5) B8(-4.5,10.5) B9(-3.5,10.5) B10(-2.5,10.5) B11(-1.5,10.5) B12(-0.5,10.5) B13(0.5,10.5) B14(1.5,10.5) B15(2.5,10.5) B16(3.5,10.5) B17(4.5,10.5) B18(5.5,10.5) B19(6.5,10.5) B20(7.5,10.5) B21(8.5,10.5) B22(9.5,10.5) B23(10.5,10.5) B24(11.5,10.5) C1(-11.5,9.5) C2(-10.5,9.5) C3(-9.5,9.5) C4(-8.5,9.5) C5(-7.5,9.5) C6(-6.5,9.5) C7(-5.5,9.5) C8(-4.5,9.5) C9(-3.5,9.5) C10(-2.5,9.5) C11(-1.5,9.5) C12(-0.5,9.5) C13(0.5,9.5) C14(1.5,9.5) C15(2.5,9.5) C16(3.5,9.5) C17(4.5,9.5) C18(5.5,9.5) C19(6.5,9.5) C20(7.5,9.5) C21(8.5,9.5) C22(9.5,9.5) C23(10.5,9.5) C24(11.5,9.5) D1(-11.5,8.5) D2(-10.5,8.5) D3(-9.5,8.5) D4(-8.5,8.5) D5(-7.5,8.5) D6(-6.5,8.5) D7(-5.5,8.5) D8(-4.5,8.5) D9(-3.5,8.5) D10(-2.5,8.5) D11(-1.5,8.5) D12(-0.5,8.5) D13(0.5,8.5) D14(1.5,8.5) D15(2.5,8.5) D16(3.5,8.5) D17(4.5,8.5) D18(5.5,8.5) D19(6.5,8.5) D20(7.5,8.5) D21(8.5,8.5) D22(9.5,8.5) D23(10.5,8.5) D24(11.5,8.5) E1(-11.5,7.5) E2(-10.5,7.5) E3(-9.5,7.5) E4(-8.5,7.5) E5(-7.5,7.5) E6(-6.5,7.5) E7(-5.5,7.5) E8(-4.5,7.5) E9(-3.5,7.5) E10(-2.5,7.5) E11(-1.5,7.5) E12(-0.5,7.5) E13(0.5,7.5) E14(1.5,7.5) E15(2.5,7.5) E16(3.5,7.5) E17(4.5,7.5) E18(5.5,7.5) E19(6.5,7.5) E20(7.5,7.5) E21(8.5,7.5) E22(9.5,7.5) E23(10.5,7.5) E24(11.5,7.5) F1(-11.5,6.5) F2(-10.5,6.5) F3(-9.5,6.5) F4(-8.5,6.5) F5(-7.5,6.5) F6(-6.5,6.5) F7(-5.5,6.5) F8(-4.5,6.5) F9(-3.5,6.5) F10(-2.5,6.5) F11(-1.5,6.5) F12(-0.5,6.5) F13(0.5,6.5) F14(1.5,6.5) F15(2.5,6.5) F16(3.5,6.5) F17(4.5,6.5) F18(5.5,6.5) F19(6.5,6.5) F20(7.5,6.5) F21(8.5,6.5) F22(9.5,6.5) F23(10.5,6.5) F24(11.5,6.5) G1(-11.5,5.5) G2(-10.5,5.5) G3(-9.5,5.5) G4(-8.5,5.5) G5(-7.5,5.5) G6(-6.5,5.5) G7(-5.5,5.5) G8(-4.5,5.5) G9(-3.5,5.5) G10(-2.5,5.5) G11(-1.5,5.5) G12(-0.5,5.5) G13(0.5,5.5) G14(1.5,5.5) G15(2.5,5.5) G16(3.5,5.5) G17(4.5,5.5) G18(5.5,5.5) G19(6.5,5.5) G20(7.5,5.5) G21(8.5,5.5) G22(9.5,5.5) G23(10.5,5.5) G24(11.5,5.5) H1(-11.5,4.5) H2(-10.5,4.5) H3(-9.5,4.5) H4(-8.5,4.5) H5(-7.5,4.5) H6(-6.5,4.5) H7(-5.5,4.5) H8(-4.5,4.5) H9(-3.5,4.5) H10(-2.5,4.5) H11(-1.5,4.5) H12(-0.5,4.5) H13(0.5,4.5) H14(1.5,4.5) H15(2.5,4.5) H16(3.5,4.5) H17(4.5,4.5) H18(5.5,4.5) H19(6.5,4.5) H20(7.5,4.5) H21(8.5,4.5) H22(9.5,4.5) H23(10.5,4.5) H24(11.5,4.5) J1(-11.5,3.5) J2(-10.5,3.5) J3(-9.5,3.5) J4(-8.5,3.5) J5(-7.5,3.5) J6(-6.5,3.5) J7(-5.5,3.5) J8(-4.5,3.5) J9(-3.5,3.5) J10(-2.5,3.5) J11(-1.5,3.5) J12(-0.5,3.5) J13(0.5,3.5) J14(1.5,3.5) J15(2.5,3.5) J16(3.5,3.5) J17(4.5,3.5) J18(5.5,3.5) J19(6.5,3.5) J20(7.5,3.5) J21(8.5,3.5) J22(9.5,3.5) J23(10.5,3.5) J24(11.5,3.5) K1(-11.5,2.5) K2(-10.5,2.5) K3(-9.5,2.5) K4(-8.5,2.5) K5(-7.5,2.5) K6(-6.5,2.5) K7(-5.5,2.5) K8(-4.5,2.5) K9(-3.5,2.5) K10(-2.5,2.5) K11(-1.5,2.5) K12(-0.5,2.5) K13(0.5,2.5) K14(1.5,2.5) K15(2.5,2.5) K16(3.5,2.5) K17(4.5,2.5) K18(5.5,2.5) K19(6.5,2.5) K20(7.5,2.5) K21(8.5,2.5) K22(9.5,2.5) K23(10.5,2.5) K24(11.5,2.5) L1(-11.5,1.5) L2(-10.5,1.5) L3(-9.5,1.5) L4(-8.5,1.5) L5(-7.5,1.5) L6(-6.5,1.5) L7(-5.5,1.5) L8(-4.5,1.5) L9(-3.5,1.5) L10(-2.5,1.5) L11(-1.5,1.5) L12(-0.5,1.5) L13(0.5,1.5) L14(1.5,1.5) L15(2.5,1.5) L16(3.5,1.5) L17(4.5,1.5) L18(5.5,1.5) L19(6.5,1.5) L20(7.5,1.5) L21(8.5,1.5) L22(9.5,1.5) L23(10.5,1.5) L24(11.5,1.5) M1(-11.5,0.5) M2(-10.5,0.5) M3(-9.5,0.5) M4(-8.5,0.5) M5(-7.5,0.5) M6(-6.5,0.5) M7(-5.5,0.5) M8(-4.5,0.5) M9(-3.5,0.5) M10(-2.5,0.5) M11(-1.5,0.5) M12(-0.5,0.5) M13(0.5,0.5) M14(1.5,0.5) M15(2.5,0.5) M16(3.5,0.5) M17(4.5,0.5) M18(5.5,0.5) M19(6.5,0.5) M20(7.5,0.5) M21(8.5,0.5) M22(9.5,0.5) M23(10.5,0.5) M24(11.5,0.5) N1(-11.5,-0.5) N2(-10.5,-0.5) N3(-9.5,-0.5) N4(-8.5,-0.5) N5(-7.5,-0.5) N6(-6.5,-0.5) N7(-5.5,-0.5) N8(-4.5,-0.5) N9(-3.5,-0.5) N10(-2.5,-0.5) N11(-1.5,-0.5) N12(-0.5,-0.5) N13(0.5,-0.5) N14(1.5,-0.5) N15(2.5,-0.5) N16(3.5,-0.5) N17(4.5,-0.5) N18(5.5,-0.5) N19(6.5,-0.5) N20(7.5,-0.5) N21(8.5,-0.5) N22(9.5,-0.5) N23(10.5,-0.5) N24(11.5,-0.5) P1(-11.5,-1.5) P2(-10.5,-1.5) P3(-9.5,-1.5) P4(-8.5,-1.5) P5(-7.5,-1.5) P6(-6.5,-1.5) P7(-5.5,-1.5) P8(-4.5,-1.5) P9(-3.5,-1.5) P10(-2.5,-1.5) P11(-1.5,-1.5) P12(-0.5,-1.5) P13(0.5,-1.5) P14(1.5,-1.5) P15(2.5,-1.5) P16(3.5,-1.5) P17(4.5,-1.5) P18(5.5,-1.5) P19(6.5,-1.5) P20(7.5,-1.5) P21(8.5,-1.5) P22(9.5,-1.5) P23(10.5,-1.5) P24(11.5,-1.5) R1(-11.5,-2.5) R2(-10.5,-2.5) R3(-9.5,-2.5) R4(-8.5,-2.5) R5(-7.5,-2.5) R6(-6.5,-2.5) R7(-5.5,-2.5) R8(-4.5,-2.5) R9(-3.5,-2.5) R10(-2.5,-2.5) R11(-1.5,-2.5) R12(-0.5,-2.5) R13(0.5,-2.5) R14(1.5,-2.5) R15(2.5,-2.5) R16(3.5,-2.5) R17(4.5,-2.5) R18(5.5,-2.5) R19(6.5,-2.5) R20(7.5,-2.5) R21(8.5,-2.5) R22(9.5,-2.5) R23(10.5,-2.5) R24(11.5,-2.5) T1(-11.5,-3.5) T2(-10.5,-3.5) T3(-9.5,-3.5) T4(-8.5,-3.5) T5(-7.5,-3.5) T6(-6.5,-3.5) T7(-5.5,-3.5) T8(-4.5,-3.5) T9(-3.5,-3.5) T10(-2.5,-3.5) T11(-1.5,-3.5) T12(-0.5,-3.5) T13(0.5,-3.5) T14(1.5,-3.5) T15(2.5,-3.5) T16(3.5,-3.5) T17(4.5,-3.5) T18(5.5,-3.5) T19(6.5,-3.5) T20(7.5,-3.5) T21(8.5,-3.5) T22(9.5,-3.5) T23(10.5,-3.5) T24(11.5,-3.5) U1(-11.5,-4.5) U2(-10.5,-4.5) U3(-9.5,-4.5) U4(-8.5,-4.5) U5(-7.5,-4.5) U6(-6.5,-4.5) U7(-5.5,-4.5) U8(-4.5,-4.5) U9(-3.5,-4.5) U10(-2.5,-4.5) U11(-1.5,-4.5) U12(-0.5,-4.5) U13(0.5,-4.5) U14(1.5,-4.5) U15(2.5,-4.5) U16(3.5,-4.5) U17(4.5,-4.5) U18(5.5,-4.5) U19(6.5,-4.5) U20(7.5,-4.5) U21(8.5,-4.5) U22(9.5,-4.5) U23(10.5,-4.5) U24(11.5,-4.5) V1(-11.5,-5.5) V2(-10.5,-5.5) V3(-9.5,-5.5) V4(-8.5,-5.5) V5(-7.5,-5.5) V6(-6.5,-5.5) V7(-5.5,-5.5) V8(-4.5,-5.5) V9(-3.5,-5.5) V10(-2.5,-5.5) V11(-1.5,-5.5) V12(-0.5,-5.5) V13(0.5,-5.5) V14(1.5,-5.5) V15(2.5,-5.5) V16(3.5,-5.5) V17(4.5,-5.5) V18(5.5,-5.5) V19(6.5,-5.5) V20(7.5,-5.5) V21(8.5,-5.5) V22(9.5,-5.5) V23(10.5,-5.5) V24(11.5,-5.5) W1(-11.5,-6.5) W2(-10.5,-6.5) W3(-9.5,-6.5) W4(-8.5,-6.5) W5(-7.5,-6.5) W6(-6.5,-6.5) W7(-5.5,-6.5) W8(-4.5,-6.5) W9(-3.5,-6.5) W10(-2.5,-6.5) W11(-1.5,-6.5) W12(-0.5,-6.5) W13(0.5,-6.5) W14(1.5,-6.5) W15(2.5,-6.5) W16(3.5,-6.5) W17(4.5,-6.5) W18(5.5,-6.5) W19(6.5,-6.5) W20(7.5,-6.5) W21(8.5,-6.5) W22(9.5,-6.5) W23(10.5,-6.5) W24(11.5,-6.5) Y1(-11.5,-7.5) Y2(-10.5,-7.5) Y3(-9.5,-7.5) Y4(-8.5,-7.5) Y5(-7.5,-7.5) Y6(-6.5,-7.5) Y7(-5.5,-7.5) Y8(-4.5,-7.5) Y9(-3.5,-7.5) Y10(-2.5,-7.5) Y11(-1.5,-7.5) Y12(-0.5,-7.5) Y13(0.5,-7.5) Y14(1.5,-7.5) Y15(2.5,-7.5) Y16(3.5,-7.5) Y17(4.5,-7.5) Y18(5.5,-7.5) Y19(6.5,-7.5) Y20(7.5,-7.5) Y21(8.5,-7.5) Y22(9.5,-7.5) Y23(10.5,-7.5) Y24(11.5,-7.5)
TopOverlay:
  circle w0.2: c-13.15,11.5 r0.2
  region: -11.525,12.5 -12.5,11.525 -12.5,12.5
  lines w0.2: -12.5,11.525 -11.525,12.5 ; -12.5,-12.5 12.5,-12.5 12.5,12.5 -12.5,12.5 -12.5,-12.5
Mechanical13:
  lines w0.1: -12.5,-12.5 12.5,-12.5 12.5,12.5 -12.5,12.5 -12.5,-12.5
Mechanical15:
  lines w0.1: -0.5,0 0.5,0 ; 0,-0.5 0,0.5 ; -13.5,-13.5 13.5,-13.5 13.5,13.5 -13.5,13.5 -13.5,-13.5
3D body: height 3.17, standoff 0, extent -12.5,-12.5 12.5,12.5

## BGA100_625_S27 [mm] "BGA, 625-Leads, Body 27x27mm, Pitch 1mm"
height 3.5
pads (625):
  round 0.5 smd: A1(-12,12) A2(-11,12) A3(-10,12) A4(-9,12) A5(-8,12) A6(-7,12) A7(-6,12) A8(-5,12) A9(-4,12) A10(-3,12) A11(-2,12) A12(-1,12) A13(0,12) A14(1,12) A15(2,12) A16(3,12) A17(4,12) A18(5,12) A19(6,12) A20(7,12) A21(8,12) A22(9,12) A23(10,12) A24(11,12) A25(12,12) AA1(-12,-8) AA2(-11,-8) AA3(-10,-8) AA4(-9,-8) AA5(-8,-8) AA6(-7,-8) AA7(-6,-8) AA8(-5,-8) AA9(-4,-8) AA10(-3,-8) AA11(-2,-8) AA12(-1,-8) AA13(0,-8) AA14(1,-8) AA15(2,-8) AA16(3,-8) AA17(4,-8) AA18(5,-8) AA19(6,-8) AA20(7,-8) AA21(8,-8) AA22(9,-8) AA23(10,-8) AA24(11,-8) AA25(12,-8) AB1(-12,-9) AB2(-11,-9) AB3(-10,-9) AB4(-9,-9) AB5(-8,-9) AB6(-7,-9) AB7(-6,-9) AB8(-5,-9) AB9(-4,-9) AB10(-3,-9) AB11(-2,-9) AB12(-1,-9) AB13(0,-9) AB14(1,-9) AB15(2,-9) AB16(3,-9) AB17(4,-9) AB18(5,-9) AB19(6,-9) AB20(7,-9) AB21(8,-9) AB22(9,-9) AB23(10,-9) AB24(11,-9) AB25(12,-9) AC1(-12,-10) AC2(-11,-10) AC3(-10,-10) AC4(-9,-10) AC5(-8,-10) AC6(-7,-10) AC7(-6,-10) AC8(-5,-10) AC9(-4,-10) AC10(-3,-10) AC11(-2,-10) AC12(-1,-10) AC13(0,-10) AC14(1,-10) AC15(2,-10) AC16(3,-10) AC17(4,-10) AC18(5,-10) AC19(6,-10) AC20(7,-10) AC21(8,-10) AC22(9,-10) AC23(10,-10) AC24(11,-10) AC25(12,-10) AD1(-12,-11) AD2(-11,-11) AD3(-10,-11) AD4(-9,-11) AD5(-8,-11) AD6(-7,-11) AD7(-6,-11) AD8(-5,-11) AD9(-4,-11) AD10(-3,-11) AD11(-2,-11) AD12(-1,-11) AD13(0,-11) AD14(1,-11) AD15(2,-11) AD16(3,-11) AD17(4,-11) AD18(5,-11) AD19(6,-11) AD20(7,-11) AD21(8,-11) AD22(9,-11) AD23(10,-11) AD24(11,-11) AD25(12,-11) AE1(-12,-12) AE2(-11,-12) AE3(-10,-12) AE4(-9,-12) AE5(-8,-12) AE6(-7,-12) AE7(-6,-12) AE8(-5,-12) AE9(-4,-12) AE10(-3,-12) AE11(-2,-12) AE12(-1,-12) AE13(0,-12) AE14(1,-12) AE15(2,-12) AE16(3,-12) AE17(4,-12) AE18(5,-12) AE19(6,-12) AE20(7,-12) AE21(8,-12) AE22(9,-12) AE23(10,-12) AE24(11,-12) AE25(12,-12) B1(-12,11) B2(-11,11) B3(-10,11) B4(-9,11) B5(-8,11) B6(-7,11) B7(-6,11) B8(-5,11) B9(-4,11) B10(-3,11) B11(-2,11) B12(-1,11) B13(0,11) B14(1,11) B15(2,11) B16(3,11) B17(4,11) B18(5,11) B19(6,11) B20(7,11) B21(8,11) B22(9,11) B23(10,11) B24(11,11) B25(12,11) C1(-12,10) C2(-11,10) C3(-10,10) C4(-9,10) C5(-8,10) C6(-7,10) C7(-6,10) C8(-5,10) C9(-4,10) C10(-3,10) C11(-2,10) C12(-1,10) C13(0,10) C14(1,10) C15(2,10) C16(3,10) C17(4,10) C18(5,10) C19(6,10) C20(7,10) C21(8,10) C22(9,10) C23(10,10) C24(11,10) C25(12,10) D1(-12,9) D2(-11,9) D3(-10,9) D4(-9,9) D5(-8,9) D6(-7,9) D7(-6,9) D8(-5,9) D9(-4,9) D10(-3,9) D11(-2,9) D12(-1,9) D13(0,9) D14(1,9) D15(2,9) D16(3,9) D17(4,9) D18(5,9) D19(6,9) D20(7,9) D21(8,9) D22(9,9) D23(10,9) D24(11,9) D25(12,9) E1(-12,8) E2(-11,8) E3(-10,8) E4(-9,8) E5(-8,8) E6(-7,8) E7(-6,8) E8(-5,8) E9(-4,8) E10(-3,8) E11(-2,8) E12(-1,8) E13(0,8) E14(1,8) E15(2,8) E16(3,8) E17(4,8) E18(5,8) E19(6,8) E20(7,8) E21(8,8) E22(9,8) E23(10,8) E24(11,8) E25(12,8) F1(-12,7) F2(-11,7) F3(-10,7) F4(-9,7) F5(-8,7) F6(-7,7) F7(-6,7) F8(-5,7) F9(-4,7) F10(-3,7) F11(-2,7) F12(-1,7) F13(0,7) F14(1,7) F15(2,7) F16(3,7) F17(4,7) F18(5,7) F19(6,7) F20(7,7) F21(8,7) F22(9,7) F23(10,7) F24(11,7) F25(12,7) G1(-12,6) G2(-11,6) G3(-10,6) G4(-9,6) G5(-8,6) G6(-7,6) G7(-6,6) G8(-5,6) G9(-4,6) G10(-3,6) G11(-2,6) G12(-1,6) G13(0,6) G14(1,6) G15(2,6) G16(3,6) G17(4,6) G18(5,6) G19(6,6) G20(7,6) G21(8,6) G22(9,6) G23(10,6) G24(11,6) G25(12,6) H1(-12,5) H2(-11,5) H3(-10,5) H4(-9,5) H5(-8,5) H6(-7,5) H7(-6,5) H8(-5,5) H9(-4,5) H10(-3,5) H11(-2,5) H12(-1,5) H13(0,5) H14(1,5) H15(2,5) H16(3,5) H17(4,5) H18(5,5) H19(6,5) H20(7,5) H21(8,5) H22(9,5) H23(10,5) H24(11,5) H25(12,5) J1(-12,4) J2(-11,4) J3(-10,4) J4(-9,4) J5(-8,4) J6(-7,4) J7(-6,4) J8(-5,4) J9(-4,4) J10(-3,4) J11(-2,4) J12(-1,4) J13(0,4) J14(1,4) J15(2,4) J16(3,4) J17(4,4) J18(5,4) J19(6,4) J20(7,4) J21(8,4) J22(9,4) J23(10,4) J24(11,4) J25(12,4) K1(-12,3) K2(-11,3) K3(-10,3) K4(-9,3) K5(-8,3) K6(-7,3) K7(-6,3) K8(-5,3) K9(-4,3) K10(-3,3) K11(-2,3) K12(-1,3) K13(0,3) K14(1,3) K15(2,3) K16(3,3) K17(4,3) K18(5,3) K19(6,3) K20(7,3) K21(8,3) K22(9,3) K23(10,3) K24(11,3) K25(12,3) L1(-12,2) L2(-11,2) L3(-10,2) L4(-9,2) L5(-8,2) L6(-7,2) L7(-6,2) L8(-5,2) L9(-4,2) L10(-3,2) L11(-2,2) L12(-1,2) L13(0,2) L14(1,2) L15(2,2) L16(3,2) L17(4,2) L18(5,2) L19(6,2) L20(7,2) L21(8,2) L22(9,2) L23(10,2) L24(11,2) L25(12,2) M1(-12,1) M2(-11,1) M3(-10,1) M4(-9,1) M5(-8,1) M6(-7,1) M7(-6,1) M8(-5,1) M9(-4,1) M10(-3,1) M11(-2,1) M12(-1,1) M13(0,1) M14(1,1) M15(2,1) M16(3,1) M17(4,1) M18(5,1) M19(6,1) M20(7,1) M21(8,1) M22(9,1) M23(10,1) M24(11,1) M25(12,1) N1(-12,0) N2(-11,0) N3(-10,0) N4(-9,0) N5(-8,0) N6(-7,0) N7(-6,0) N8(-5,0) N9(-4,0) N10(-3,0) N11(-2,0) N12(-1,0) N13(0,0) N14(1,0) N15(2,0) N16(3,0) N17(4,0) N18(5,0) N19(6,0) N20(7,0) N21(8,0) N22(9,0) N23(10,0) N24(11,0) N25(12,0) P1(-12,-1) P2(-11,-1) P3(-10,-1) P4(-9,-1) P5(-8,-1) P6(-7,-1) P7(-6,-1) P8(-5,-1) P9(-4,-1) P10(-3,-1) P11(-2,-1) P12(-1,-1) P13(0,-1) P14(1,-1) P15(2,-1) P16(3,-1) P17(4,-1) P18(5,-1) P19(6,-1) P20(7,-1) P21(8,-1) P22(9,-1) P23(10,-1) P24(11,-1) P25(12,-1) R1(-12,-2) R2(-11,-2) R3(-10,-2) R4(-9,-2) R5(-8,-2) R6(-7,-2) R7(-6,-2) R8(-5,-2) R9(-4,-2) R10(-3,-2) R11(-2,-2) R12(-1,-2) R13(0,-2) R14(1,-2) R15(2,-2) R16(3,-2) R17(4,-2) R18(5,-2) R19(6,-2) R20(7,-2) R21(8,-2) R22(9,-2) R23(10,-2) R24(11,-2) R25(12,-2) T1(-12,-3) T2(-11,-3) T3(-10,-3) T4(-9,-3) T5(-8,-3) T6(-7,-3) T7(-6,-3) T8(-5,-3) T9(-4,-3) T10(-3,-3) T11(-2,-3) T12(-1,-3) T13(0,-3) T14(1,-3) T15(2,-3) T16(3,-3) T17(4,-3) T18(5,-3) T19(6,-3) T20(7,-3) T21(8,-3) T22(9,-3) T23(10,-3) T24(11,-3) T25(12,-3) U1(-12,-4) U2(-11,-4) U3(-10,-4) U4(-9,-4) U5(-8,-4) U6(-7,-4) U7(-6,-4) U8(-5,-4) U9(-4,-4) U10(-3,-4) U11(-2,-4) U12(-1,-4) U13(0,-4) U14(1,-4) U15(2,-4) U16(3,-4) U17(4,-4) U18(5,-4) U19(6,-4) U20(7,-4) U21(8,-4) U22(9,-4) U23(10,-4) U24(11,-4) U25(12,-4) V1(-12,-5) V2(-11,-5) V3(-10,-5) V4(-9,-5) V5(-8,-5) V6(-7,-5) V7(-6,-5) V8(-5,-5) V9(-4,-5) V10(-3,-5) V11(-2,-5) V12(-1,-5) V13(0,-5) V14(1,-5) V15(2,-5) V16(3,-5) V17(4,-5) V18(5,-5) V19(6,-5) V20(7,-5) V21(8,-5) V22(9,-5) V23(10,-5) V24(11,-5) V25(12,-5) W1(-12,-6) W2(-11,-6) W3(-10,-6) W4(-9,-6) W5(-8,-6) W6(-7,-6) W7(-6,-6) W8(-5,-6) W9(-4,-6) W10(-3,-6) W11(-2,-6) W12(-1,-6) W13(0,-6) W14(1,-6) W15(2,-6) W16(3,-6) W17(4,-6) W18(5,-6) W19(6,-6) W20(7,-6) W21(8,-6) W22(9,-6) W23(10,-6) W24(11,-6) W25(12,-6) Y1(-12,-7) Y2(-11,-7) Y3(-10,-7) Y4(-9,-7) Y5(-8,-7) Y6(-7,-7) Y7(-6,-7) Y8(-5,-7) Y9(-4,-7) Y10(-3,-7) Y11(-2,-7) Y12(-1,-7) Y13(0,-7) Y14(1,-7) Y15(2,-7) Y16(3,-7) Y17(4,-7) Y18(5,-7) Y19(6,-7) Y20(7,-7) Y21(8,-7) Y22(9,-7) Y23(10,-7) Y24(11,-7) Y25(12,-7)
TopOverlay:
  circle w0.2: c-14.15,12 r0.2
  region: -12.5,13.5 -13.5,12.5 -13.5,13.5
  lines w0.2: -13.5,12.5 -12.5,13.5 ; -13.5,-13.5 -13.5,13.5 13.5,13.5 13.5,-13.5 -13.5,-13.5
Mechanical13:
  lines w0.1: -13.5,-13.5 -13.5,13.5 13.5,13.5 13.5,-13.5 -13.5,-13.5
Mechanical15:
  lines w0.1: -0.5,0 0.5,0 ; 0,-0.5 0,0.5 ; -14.5,-14.5 -14.5,14.5 14.5,14.5 14.5,-14.5 -14.5,-14.5
3D body: height 3.5, standoff 0, extent -13.5,-13.5 13.5,13.5